# EAGLE library part ATTINY10 (library AVR)
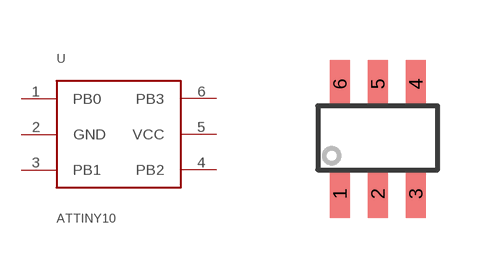
[diagram p2: symbol with the pads of SOT23; footprint SOT23]

Designator prefix U

## ATTINY10  [SOT23]
1  PB0
2  GND
3  PB1
4  PB2
5  VCC
6  PB3

## Footprint SOT23 (pad centres in mm)
smd 0.5 x 1.2: 1 -0.95,-1.4; 2 0,-1.4; 3 0.95,-1.4; 4 0.95,1.35; 5 0,1.35; 6 -0.95,1.35